# EAGLE library part IC_WKL (library Schuyler)
Laser driver from iC-Haus. Part number iC-WKL. http://www.ichaus.de/product/iC-WK%20iC-WKL
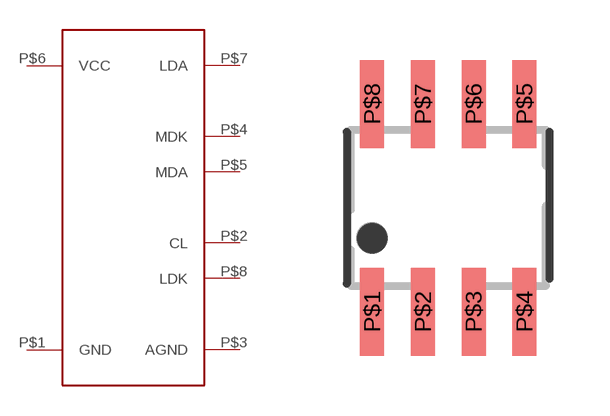
[diagram p10: symbol with the pads of SO-8; footprint SO-8]

Designator prefix -

## IC_WKL-L (MANPARTNUMBER: iC-WKL; MANUFACTURER: iC-Haus; VERIFIED: TRUE)  [SO-8]
P$1  GND  pwr
P$2  CL
P$3  AGND
P$4  MDK
P$5  MDA
P$6  VCC  pwr
P$7  LDA
P$8  LDK  in

## Footprint SO-8 (pad centres in mm)
smd 0.6 x 2.2: P$1 -1.905,-2.6; P$2 -0.635,-2.6; P$3 0.635,-2.6; P$4 1.905,-2.6; P$5 1.905,2.6; P$6 0.635,2.6; P$7 -0.635,2.6; P$8 -1.905,2.6